# Altium schematic symbol library AUVic_Schematic_Library_Connectors.SchLib: 54 symbols
Pins are listed as number, name and electrical type; pins without a type are passive.

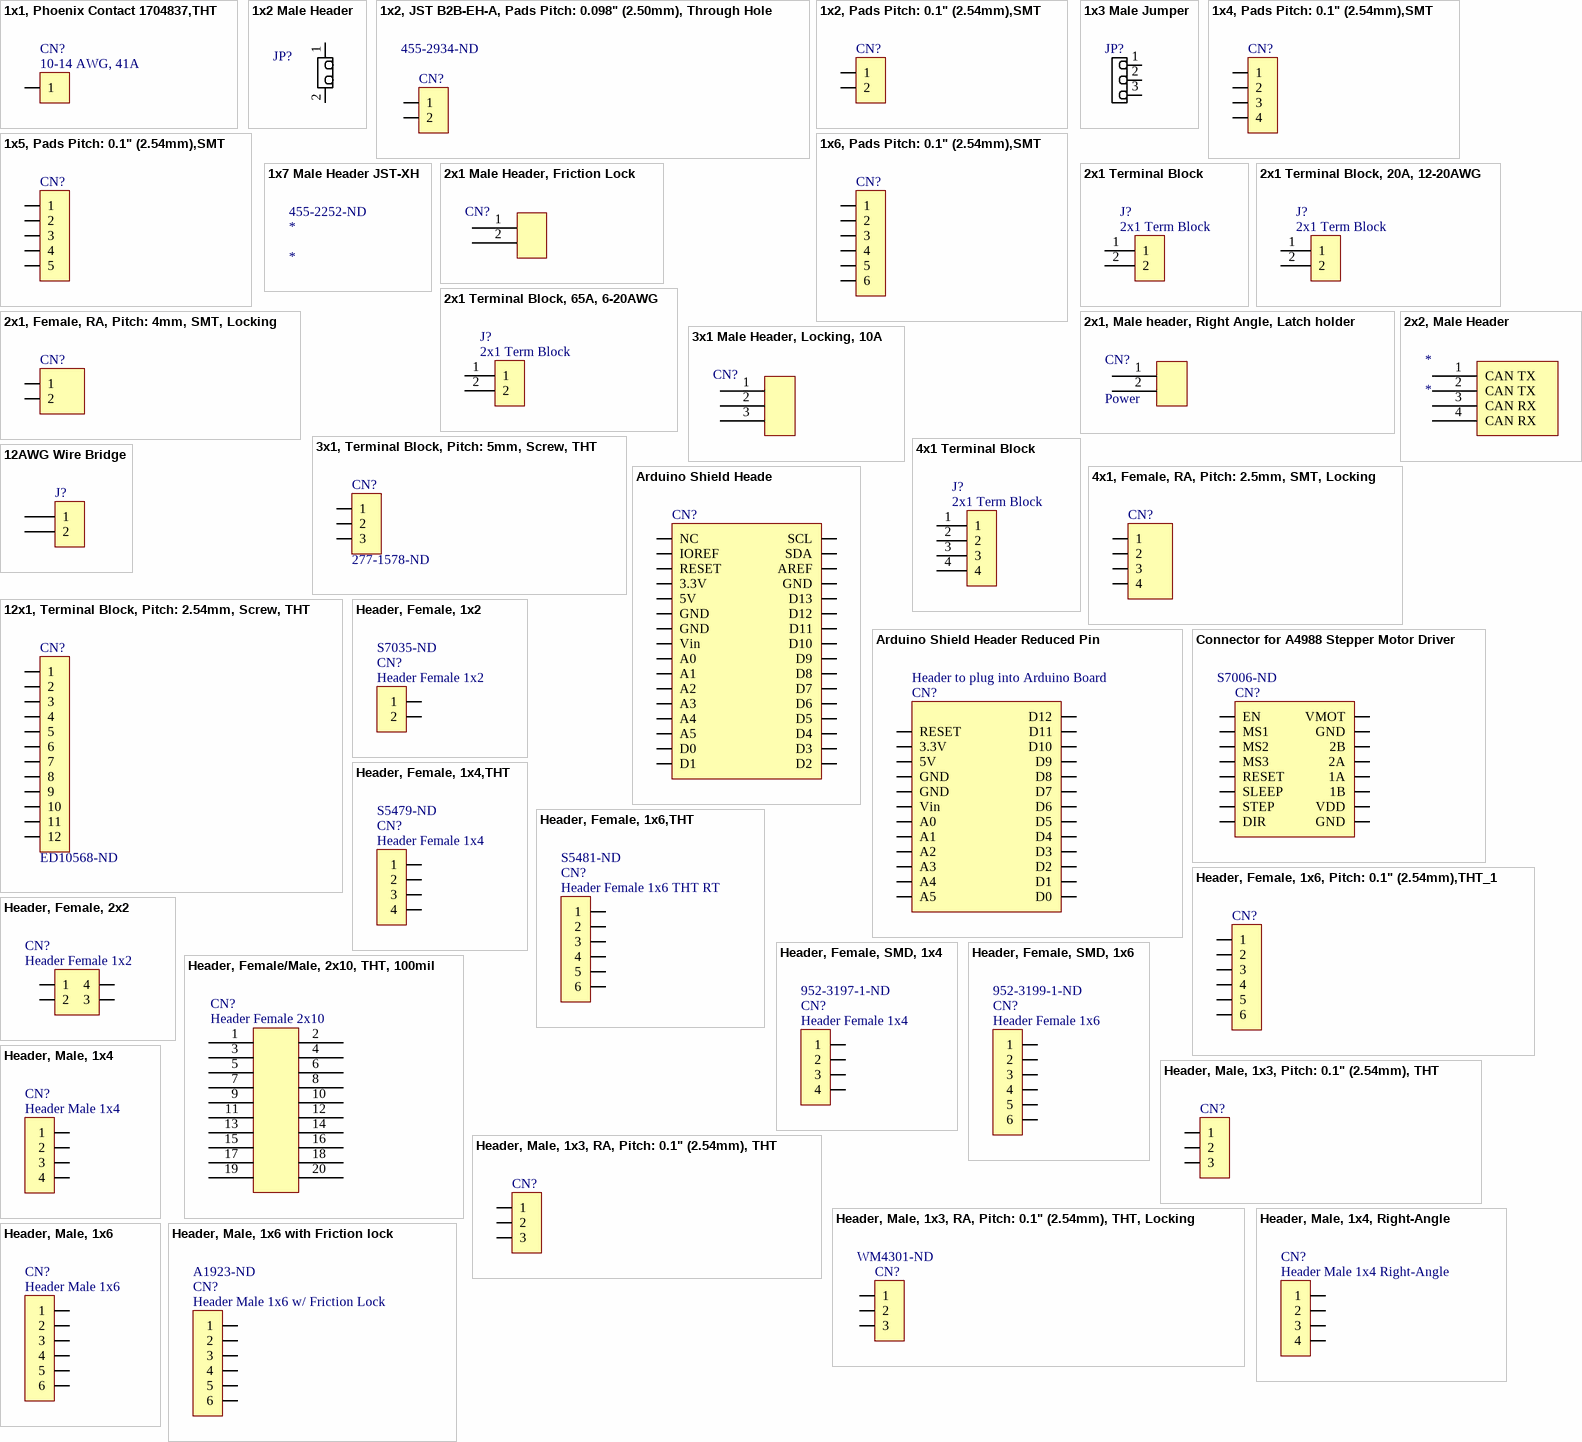
[diagram p0: symbols 1x1, Phoenix Contact 1704837,THT to Header, Male, 1x6 with Friction lock]

## 1x1, Phoenix Contact 1704837,THT
designator CN?, comment 10-14 AWG, 41A  (no BOM)
1x1, Phoenix Contact 1704837,THT; Publisher: Andy Bates; Date Published: 2018-01-21; Last Updated: *; Reviewed By: *; Supplier 1: Digi-Key; Supplier Part Number 1: 277-10194-1-ND
footprint 1x1, Phoenix Contact 1704837,THT
pins: 1

## 1x2 Male Header
designator JP?, comment 1X2 Pin Head  (value not drawn)
Made By: Andy Bates; Supplier 1: Digikey; Supplier 1 Part Number: 952-3073-ND
footprint 2X1 Males Header
pins: 1, 2

## 1x2, JST B2B-EH-A, Pads Pitch: 0.098" (2.50mm), Through Hole
designator CN?  Supplier Part Number 1: 455-2934-ND  (hidden comment: *)  (no BOM)
1x2, JST B2B-EH-A, Pads Pitch: 0.098" (2.50mm), Through Hole; Created By: Lyden Smith; Created On: 2018-01-27; Supplier 1: Digi-Key; Supplier 2: Digi-Key; Supplier Part Number 2: 455-1611-ND
footprint Male JST B2B-EH-A
pins: 1, 2

## 1x2, Pads Pitch: 0.1" (2.54mm),SMT
designator CN?  (value not drawn)  (no BOM)
1x2, Pads Pitch: 0.1" (2.54mm),SMT; Publisher: AUVic, Ashwin Sira; Date Published: 2014-06-03; Last Updated: *; Reviewed By: *
footprint 1x2, Pads Pitch: 0.1" (2.54mm),SMT
pins: 1, 2

## 1x3 Male Jumper
designator JP?  (value not drawn)
Made By: Poorna Chander Kalidas; Supplier 1: Digi-Key; Supplier Part Number: 1849-1003-ND
footprint Header, Male, 1x3, Pitch: 0.1" (2.54mm),THT
pins: 1, 2, 3

## 1x4, Pads Pitch: 0.1" (2.54mm),SMT
designator CN?  (value not drawn)  (no BOM)
1x4, Pads Pitch: 0.1" (2.54mm),SMT; Publisher: AUVic, Ashwin Sira; Date Published: 2014-06-03; Last Updated: *; Reviewed By: *
footprint 1x4, Pads Pitch: 0.1" (2.54mm),SMT
pins: 1, 2, 3, 4

## 1x5, Pads Pitch: 0.1" (2.54mm),SMT
designator CN?  (value not drawn)  (no BOM)
1x5, Pads Pitch: 0.1" (2.54mm),SMT; Publisher: AUVic, Ashwin Sira; Date Published: 2014-06-03; Last Updated: *; Reviewed By: *
footprint 1x5, Pads Pitch: 0.1" (2.54mm),SMT
pins: 1, 2, 3, 4, 5

## 1x6, Pads Pitch: 0.1" (2.54mm),SMT
designator CN?  (value not drawn)  (no BOM)
1x6, Pads Pitch: 0.1" (2.54mm),SMT; Publisher: AUVic, Ashwin Sira; Date Published: 2014-06-03; Last Updated: *; Reviewed By: *
footprint 1x6, Pads Pitch: 0.1" (2.54mm),SMT
pins: 1, 2, 3, 4, 5, 6

## 1x7 Male Header JST-XH
designator *  Supplier Part Number 1: 455-2252-ND
Supplier 1: Digi-Key

## 2x1 Male Header, Friction Lock
designator CN?, comment 640456-2  (value not drawn)
CONN HEADER VERT 2POS .100 TIN; Made by: Robert Keen; ComponentLink1Description: Digikey; ComponentLink1URL: https://www.digikey.ca/product-detail/en/te-connectivity-amp-connectors/640456-2/A1921-ND/109003; Made on: 2018-08-15; Supplier 1: Digi-Key; Supplier Part Number 1: A1921-ND
footprint 640456-2
pins: 1, 2

## 2x1 Terminal Block
designator J?, comment 2x1 Term Block
Made by: Andy Bates; Supplier 1: Digikey; Supplier Part Number 1: ED2740-ND
footprint 2X1 Terminal Blocks (ED2740-ND)
pins: 1, 2

## 2x1 Terminal Block, 20A, 12-20AWG
designator J?, comment 2x1 Term Block
Made by: Andy Bates; Date Made: 2017-11-14; Supplier 1: Digi-Key; Supplier Part Number 1: 277-6405-ND
footprint 2X1 Terminal Blocks Phoenix Contact 5mm
pins: 1, 2

## 2x1 Terminal Block, 65A, 6-20AWG
designator J?, comment 2x1 Term Block
Made by: Lyden Smith; Supplier 1: Digi-Key; Supplier Part Number 1: 283-4339-ND; Date Made: 2017-11-13
footprint 2x1 Terminal Blocks EM2929 (EM2929 02-L)
pins: 1, 2

## 2x1, Female, RA, Pitch: 4mm, SMT, Locking
designator CN?  (value not drawn)
2x1 Female, RA, Pitch: 4mm, SMT, Locking; Publisher: AUVic, Ashwin Sira; Date Published: 2014-06-03; Last Updated: *; Reviewed By: *; Supplier 1: Digi-Key; Supplier Part Number 1: WM10425CT-ND
footprint 2x1, Female, RA, Pitch: 4mm, SMT, Locking
pins: 1, 2

## 2x1, Male header, Right Angle, Latch holder
designator CN?, comment Power
Connector Header Through Hole, Right Angle 2 position 0.312" (7.92mm); Made by: Robert Keen; ComponentLink1Description: Digikey (male); ComponentLink1URL: https://www.digikey.ca/product-detail/en/hirose-electric-co-ltd/DF22R-2P-7.92DS-05/H10706-ND/1025057; ComponentLink2Description: Digikey (female); ComponentLink2URL: https://www.digikey.ca/product-detail/en/hirose-electric-co-ltd/DF22R-2S-7.92C-28/H1615-ND/510248; ComponentLink3Description: Digikey (crimp); ComponentLink3URL: https://www.digikey.ca/product-detail/en/hirose-electric-co-ltd/DF22-1416SCF/H2788CT-ND/365031; Made on: 2018-08-16; Supplier 3: Digi-Key; Supplier Part Number 1: H10706-ND; Supplier Part Number 2: H1615-ND; Supplier Part Number 3: H2788CT-ND; Supplier 2: Digi-Key; Supplier 1: Digi-Key
footprint 2X1 Power Connector 90 degrees
pins: 1, 2

## 2x2, Male Header
designator *
CONN HEADER 4POS VERT 2MM T/H; Made by: Robert Keen; ComponentLink1Description: Digikey; ComponentLink1URL: https://www.digikey.ca/product-detail/en/molex-llc/0878310441/WM8610-ND/3044731; Supplier 1: Digi-Key; Made on: 2018-08-14; Supplier Part Number 1: WM8610-ND
footprint Header, Male, 2X2, CAN
pins: 1 CAN TX, 2 CAN TX, 3 CAN RX, 4 CAN RX

## 3x1 Male Header, Locking, 10A
designator CN?, comment B3PS-VH(LF)(SN)  (value not drawn)
CONN HEADER VH SIDE 3POS 3.96MM; Made by: Robert Keen; Made on: 2018-08-16; Supplier 1: Digi-Key; Supplier Part Number 1: 455-1649-ND; ComponentLink1Description: Digikey (male); ComponentLink1URL: https://www.digikey.ca/product-detail/en/jst-sales-america-inc/B3PS-VH-LF-SN/455-1649-ND/926556; ComponentLink2Description: Digikey (female); ComponentLink2URL: https://www.digikey.ca/product-detail/en/jst-sales-america-inc/VHR-3N/455-1184-ND/608625; ComponentLink3Description: Digikey (crimps); ComponentLink3URL: https://www.digikey.ca/product-detail/en/jst-sales-america-inc/SVH-21T-P1.1/455-1133-1-ND/527367; Supplier Part Number 2: 455-1184-ND; Supplier Part Number 3: 455-1133-1-ND
footprint 3X1 Male Header, Locking, 10A
pins: 1, 2, 3

## 3x1, Terminal Block, Pitch: 5mm, Screw, THT
designator CN?  Supplier Part Number 1: 277-1578-ND  (hidden comment: *)
3x1, Terminal Block, Pitch: 5mm, Screw, THT; Publisher: AUVic, Ashwin Sira; Date Published: 2014-06-03; Last Updated: *; Reviewed By: *; Supplier 1: Digi-Key
footprint 3x1, Terminal Block, Pitch: 5mm, Screw, THT
pins: 1, 2, 3

## 4x1 Terminal Block
designator J?, comment 2x1 Term Block
Made by: Andy Bates; Supplier 1: Digikey; Supplier Part Number 1: ED2742-ND
footprint 4X1 Terminal Block (ED2742-ND)
pins: 1, 2, 3, 4

## 4x1, Female, RA, Pitch: 2.5mm, SMT, Locking
designator CN?  (value not drawn)
4x1 Female, RA, Pitch: 2.5mm, SMT, Locking; Owner: AUVic; Date Published: 2014-06-03; Last Updated: *; Reviewed By: *; Created By: Ashwin Sira; Supplier 1: Digi-Key; Supplier Part Number 1: 478-6171-1-ND
footprint 4x1 Female, RA, Pitch: 2.5mm, SMT, Locking
pins: 1, 2, 3, 4

## 12AWG Wire Bridge
designator J?  (value not drawn)
12AWG Wire Bridge; Created By: Lyden Smith; Created On: 2018-01-29
footprint 12AWG Wire Bridge
pins: 1, 2

## 12x1, Terminal Block, Pitch: 2.54mm, Screw, THT
designator CN?  Supplier Part Number 1: ED10568-ND  (hidden comment: *)
12x1, Terminal Block, Pitch: 2.54mm, Screw, THT; Publisher: AUVic; Date Published: 2016-07-14; Created By: Ashwin Sira; Supplier 1: Digi-Key
footprint 12X1 Terminal Block (ED2742-ND)
pins: 1, 2, 3, 4, 5, 6, 7, 8, 9, 10, 11, 12

## Arduino Shield Heade
designator CN?, comment Header to plug into Arduino Board  (value not drawn)
1x8 Header  x2 / 1x10 Header / 1.6 Header / Pitch: 0.1" (2.54mm), Contact Length 0.394" (10.00mm) Through hole; Made Bates: Poorna Chander Kalidas; Supplier 1: Digi-Key; Supplier 2: Digi-Key; Supplier 3: Digi-Key; Supplier Part Number 1: SAM8866-ND; Supplier Part Number 2: SSW-110-03-T-S-ND; Supplier Part Number 3: SAM8865-ND
footprint DIP32 Arduino Shield
pins: 1 NC, 2 IOREF, 3 RESET, 4 3.3V, 5 5V, 6 GND, 7 GND, 8 Vin, 9 A0, 10 A1, 11 A2, 12 A3, 13 A4, 14 A5, 15 D0, 16 D1, 17 D2, 18 D3, 19 D4, 20 D5, 21 D6, 22 D7, 23 D8, 24 D9, 25 D10, 26 D11, 27 D12, 28 D13, 29 GND, 30 AREF, 31 SDA, 32 SCL

## Arduino Shield Header Reduced Pin
designator CN?, comment Header to plug into Arduino Board
1x6 Header  x2 / 1x8 Header / 1x5 Header / Reduced Pin Version - Does not connect to all pin on the Arduino / Pitch: 0.1" (2.54mm), Contact Length 0.394" (10.00mm) Through hole; Made Bates: Poorna Chander Kalidas; Supplier 1: Digi-Key; Supplier 2: Digi-Key; Supplier 3: Digi-Key; Supplier Part Number 1: SAM8865-ND; Supplier Part Number 2: SAM1206-05-ND; Supplier Part Number 3: SSW-106-03-T-S-ND
footprint Arduino Shield Reduced Pin
pins: 3 RESET, 4 3.3V, 5 5V, 6 GND, 7 GND, 8 Vin, 9 A0, 10 A1, 11 A2, 12 A3, 13 A4, 14 A5, 15 D0, 16 D1, 17 D2, 18 D3, 19 D4, 20 D5, 21 D6, 22 D7, 23 D8, 24 D9, 25 D10, 26 D11, 27 D12

## Connector for A4988 Stepper Motor Driver
designator CN?  Supplier Part Number 1: S7006-ND  (hidden comment: *)
Header, Female, 2x8, Pitch: 0.1" (2.54mm),THT; Created By: Poorna Chander Kalidas; Supplier 1: Digi-Key
footprint A4988 Stepper Motor Driver Header
pins: 1 EN, 2 MS1, 3 MS2, 4 MS3, 5 RESET, 6 SLEEP, 7 STEP, 8 DIR, 9 GND, 10 VDD, 11 1B, 12 1A, 13 2A, 14 2B, 15 GND, 16 VMOT

## Header, Female, 1x2
designator CN?, comment Header Female 1x2  Supplier Part Number 1: S7035-ND
1x2, Pads Pitch: 0.1" (2.54mm), Through hole; Made Bates: Andy Bates; Supplier 1: Digi-Key
footprint 2X1 Female Header
pins: 1, 2

## Header, Female, 1x4,THT
designator CN?, comment Header Female 1x4  Supplier Part Number 1: S5479-ND
1x4, Pads Pitch: 0.1" (2.54mm), RT Ang, Through hole; Made Bates: Andy Bates; Supplier 1: Digi-Key
footprint Header, Female, RT Ang, 0.1", 1X4
pins: 1, 2, 3, 4

## Header, Female, 1x6, Pitch: 0.1" (2.54mm),THT_1
designator CN?  (value not drawn)
Header, Female, 1x6, Pitch: 0.1" (2.54mm),THT; Publisher: AUVic, Ashwin Sira; Date Published: 2014-06-03; Last Updated: *; Reviewed By: *; Supplier 1: Digi-Key; Supplier Part Number 1: SAM1103-32-ND
footprint Header, Female, 1x6, Pitch: 0.1" (2.54mm),THT
pins: 1, 2, 3, 4, 5, 6

## Header, Female, 1x6,THT
designator CN?, comment Header Female 1x6 THT RT  Supplier Part Number 1: S5481-ND
1x4, Pads Pitch: 0.1" (2.54mm), RT Ang, Through hole; Made Bates: Andy Bates; Supplier 1: Digi-Key
footprint Header, Female, RT Ang, 0.1", 1X6
pins: 1, 2, 3, 4, 5, 6

## Header, Female, 2x2
designator CN?, comment Header Female 1x2
2x2, Pads Pitch: 0.1" (2.54mm), Through hole; Made Bates: Andy Bates; Supplier 1: Digi-Key; Supplier Part Number 1: S7105-ND
footprint Header, Female, 2x2, THT
pins: 1, 2, 3, 4

## Header, Female, SMD, 1x4
designator CN?, comment Header Female 1x4  Supplier Part Number 1: 952-3197-1-ND
1x4, Pads Pitch: 0.1" (2.54mm), RT Ang, SMD; Made Bates: Andy Bates; Supplier 1: Digi-Key
footprint 1x4, Female Header, Pads Pitch: 0.1" (2.54mm),SMT
pins: 1, 2, 3, 4

## Header, Female, SMD, 1x6
designator CN?, comment Header Female 1x6  Supplier Part Number 1: 952-3199-1-ND
1x6, Pads Pitch: 0.1" (2.54mm), RT Ang, SMD; Made Bates: Andy Bates; Supplier 1: Digi-Key
footprint 1x6, Female Header, Pads Pitch: 0.1" (2.54mm),SMT
pins: 1, 2, 3, 4, 5, 6

## Header, Female/Male, 2x10, THT, 100mil
designator CN?, comment Header Female 2x10
Header, Female with extended Male pins, 2x10, THT, 100mil; Created By: Poorna Chander Kalidas; Supplier 1: Digi-Key; Supplier Part Number 1: SAM1204-10-ND
footprint HEADER, FEMALE/MALE, 2x10, 100mil
pins: 1, 2, 3, 4, 5, 6, 7, 8, 9, 10, 11, 12, 13, 14, 15, 16, 17, 18, 19, 20

## Header, Male, 1x3, Pitch: 0.1" (2.54mm), THT
designator CN?  (value not drawn)
Header, Male, 1x3, Pitch: 0.1" (2.54mm), THT; Publisher: AUVic; Date Published: 2016-03-03; Last Updated: *; Reviewed By: *; Created By: Ashwin Sira
footprint Header, Male, 1x3, Pitch: 0.1" (2.54mm),THT
pins: 1, 2, 3

## Header, Male, 1x3, RA, Pitch: 0.1" (2.54mm), THT
designator CN?  (value not drawn)
Header, Male, 1x3, RA, Pitch: 0.1" (2.54mm), THT; Publisher: AUVic; Date Published: 2016-03-03; Last Updated: *; Reviewed By: *; Created By: Ashwin Sira
footprint Header, Male, 1x3, RA, Pitch: 0.1" (2.54mm),THT
pins: 1, 2, 3

## Header, Male, 1x3, RA, Pitch: 0.1" (2.54mm), THT, Locking
designator CN?  Supplier Part Number 1: WM4301-ND  (hidden comment: *)
Header, Male, 1x3, RA, Pitch: 0.1" (2.54mm), THT. Locking; Date Published: 2018-07-12; Created By: Robert Keen; ComponentLink1Description: Digikey; ComponentLink1URL: https://www.digikey.ca/product-detail/en/molex-llc/0022053031/WM4301-ND/26691; Supplier 1: Digi-Key; ComponentLink2Description: Female; ComponentLink2URL: https://www.digikey.ca/product-detail/en/molex-llc/22-01-3037/WM2001-ND/26433; ComponentLink3Description: crimps; ComponentLink3URL: https://www.digikey.ca/product-detail/en/molex-llc/0008500113/WM1114CT-ND/467980
footprint HEADER, MALE, 1X3RA, Pitch: 0.1" (2.54mm), THT, FRICTION LOCK
pins: 1, 2, 3

## Header, Male, 1x4
designator CN?, comment Header Male 1x4
1x4, Pads Pitch: 0.1" (2.54mm), Through hole; Made Bates: Andy Bates; Supplier 1: Digikey; Supplier 1 Part Number: 952-2266-ND
footprint Header, Male, 1X4
pins: 1, 2, 3, 4

## Header, Male, 1x4, Right-Angle
designator CN?, comment Header Male 1x4 Right-Angle
1x4, Pads Pitch: 0.1" (2.54mm), Right-angle, Through hole; Made Bates: Poorna Chander Kalidas; Supplier 1: Digi-Key; Supplier Part Number 1: 952-1965-ND; ComponentLink1Description: Harwin Inc. M20-9750446; ComponentLink1URL: https://www.digikey.ca/product-detail/en/harwin-inc/M20-9750446/952-1965-ND/3727931
footprint Header, Male, 1X4, More solder
pins: 1, 2, 3, 4

## Header, Male, 1x6
designator CN?, comment Header Male 1x6
1x6, Pads Pitch: 0.1" (2.54mm), Through hole; Made Bates: Andy Bates; Supplier 1: Digikey; Supplier 1 Part Number: 952-2270-ND
footprint Header, Male, 1X6
pins: 1, 2, 3, 4, 5, 6

## Header, Male, 1x6 with Friction lock
designator CN?, comment Header Male 1x6 w/ Friction Lock  Supplier Part Number 1: A1923-ND
1x6, Pads Pitch: 0.1" (2.54mm), Friction lock, Through hole; Made Bates: Andy Bates; Supplier 1 Part Number: 952-2270-ND; Locking method: Friction lock; Supplier 1: Digi-Key
footprint Header, Male, 1X6 - duplicate
pins: 1, 2, 3, 4, 5, 6

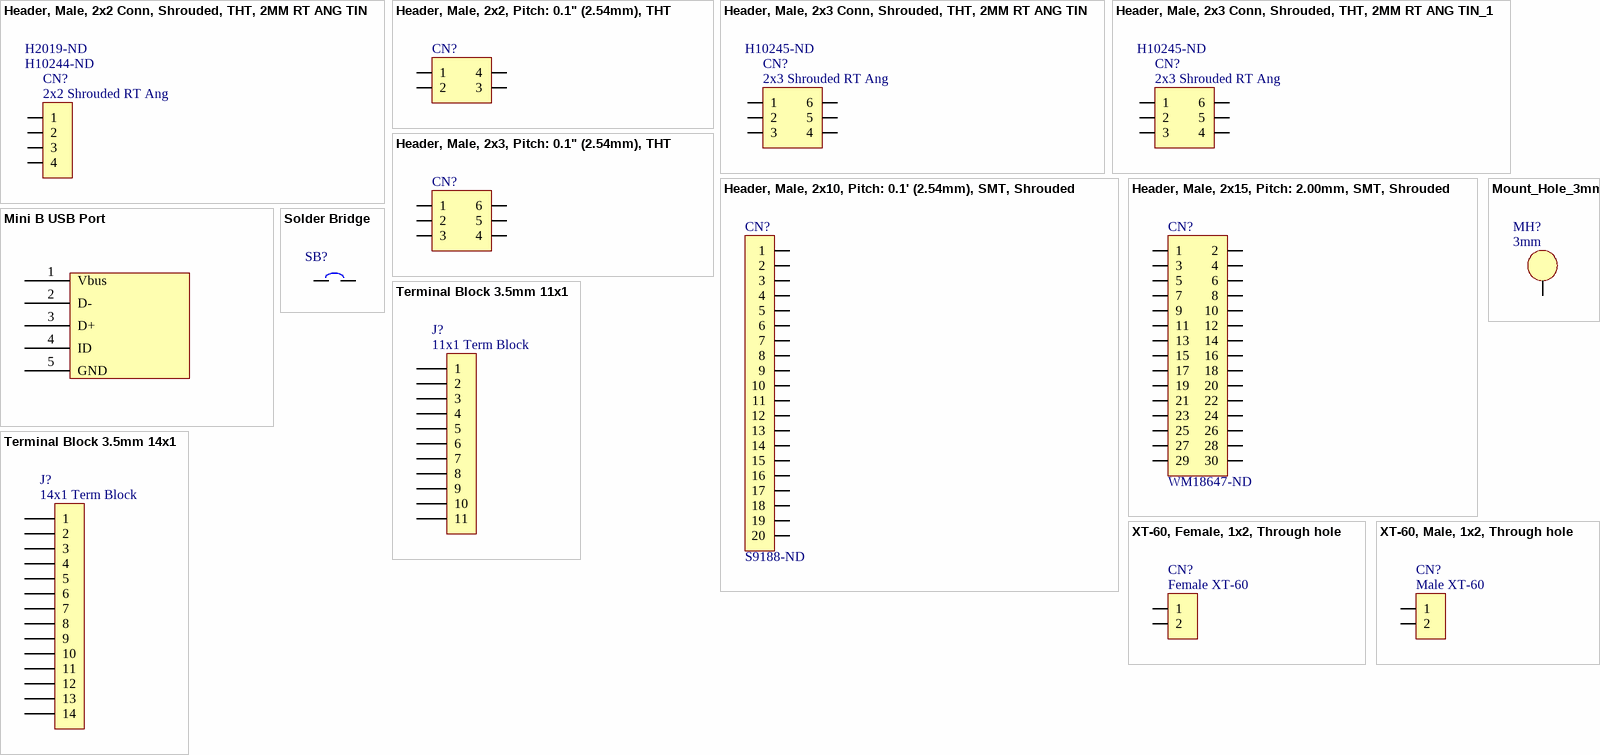
[diagram p1: symbols Header, Male, 2x2 Conn, Shrouded, THT, 2MM RT ANG TIN to XT-60, Male, 1x2, Through hole]

## Header, Male, 2x2 Conn, Shrouded, THT, 2MM RT ANG TIN
designator CN?, comment 2x2 Shrouded RT Ang  Supplier Part Number 1: H10244-ND  Supplier Part Number 2: H2019-ND
Header, Male, 2x2, Pitch: 0.1" (2.54mm), THT; Publisher: AUVic; Date Published: 2018-06-12; Last Updated: *; Reviewed By: *; Created By: Poorna Chander Kalidas; Supplier 1: Digi-Key; Supplier 2: Digi-Key
footprint HEADER, MALE, Shrouded, 4POS, 2MM, RT ANG,THT
pins: 1, 2, 3, 4

## Header, Male, 2x2, Pitch: 0.1" (2.54mm), THT
designator CN?  (value not drawn)
Header, Male, 2x2, Pitch: 0.1" (2.54mm), THT; Publisher: AUVic; Date Published: 2018-01-27; Last Updated: *; Reviewed By: *; Created By: Lyden Smith
footprint Header, Male, 2x2, Pitch: 0.1" (2.54mm),THT
pins: 1, 2, 3, 4

## Header, Male, 2x3 Conn, Shrouded, THT, 2MM RT ANG TIN
designator CN?, comment 2x3 Shrouded RT Ang  Supplier Part Number 1: H10245-ND
Header, Male, 2x3, Pitch: 0.1" (2.54mm), THT; Publisher: AUVic; Date Published: 2017-09-13; Last Updated: *; Reviewed By: *; Created By: Andy Bates; Supplier 1: Digi-Key
footprint HEADER, MALE, Shrouded, 6POS, 2MM, RT ANG,THT
pins: 1, 2, 3, 4, 5, 6

## Header, Male, 2x3 Conn, Shrouded, THT, 2MM RT ANG TIN_1
designator CN?, comment 2x3 Shrouded RT Ang  Supplier Part Number 1: H10245-ND
Header, Male, 2x3, Pitch: 0.1" (2.54mm), THT; Publisher: AUVic; Date Published: 2017-09-13; Last Updated: *; Reviewed By: *; Created By: Andy Bates; Supplier 1: Digi-Key
footprint HEADER, MALE, Shrouded, 6POS, 2MM, RT ANG,THT
pins: 1, 2, 3, 4, 5, 6

## Header, Male, 2x3, Pitch: 0.1" (2.54mm), THT
designator CN?  (value not drawn)
Header, Male, 2x3, Pitch: 0.1" (2.54mm), THT; Publisher: AUVic; Date Published: 2017-09-13; Last Updated: *; Reviewed By: *; Created By: Andy Bates
footprint Header, Male, 2x3, Pitch: 0.1" (2.54mm),THT
pins: 1, 2, 3, 4, 5, 6

## Header, Male, 2x10, Pitch: 0.1' (2.54mm), SMT, Shrouded
designator CN?  Supplier Part Number 1: S9188-ND  (hidden comment: *)
Header, Male, 2x10, Pitch: 0.1' (2.54mm), SMT, Shrouded; Publisher: AUVic; Date Published: 2016-05-18; Last Updated: *; Reviewed By: *; Supplier 1: Digi-Key; Created By: Ashwin Sira
footprint Header, Male, 2x10, Pitch: 0.1" (2.54mm),SMT (Footprint not found)
pins: 1, 2, 3, 4, 5, 6, 7, 8, 9, 10, 11, 12, 13, 14, 15, 16, 17, 18, 19, 20
1 alternate drawing of the same symbol

## Header, Male, 2x15, Pitch: 2.00mm, SMT, Shrouded
designator CN?  Supplier Part Number 1: WM18647-ND  (hidden comment: *)
Header, Male, 2x15, Pitch: 2.00mm, SMT, Shrouded; Publisher: AUVic; Date Published: 2016-07-17; Supplier 1: Digi-Key; Created By: Ashwin Sira
footprint 87832-3020 Header, Male, 2x15, Pitch: 2.00mm,SMT (Molex 87832-3020 Header, Male, 2x15, Pitch: 2.00mm,SMT)
pins: 1, 2, 3, 4, 5, 6, 7, 8, 9, 10, 11, 12, 13, 14, 15, 16, 17, 18, 19, 20, 21, 22, 23, 24, 25, 26, 27, 28, 29, 30
1 alternate drawing of the same symbol

## Mini B USB Port
designator P?
Mini B USB Port - Female; Created by: Gabriel Green; Created on: July 5, 2017; Supplier 1: Digi-Key; Supplier Part Number 1: 151-1206-1-ND
footprint Mini B USB Footprint
pins: 1 Vbus, 2 D-, 3 D+, 4 ID, 5 GND

## Mount_Hole_3mm
designator MH?, comment 3mm
footprint Mount-Hole_3mm
pins: 1

## Solder Bridge
designator SB?  (value not drawn)
Made By: Andy Bates; Created On: 2016/09/08
footprint Solder Bridge
pins: 1, 2

## Terminal Block 3.5mm 11x1
designator J?, comment 11x1 Term Block
Made by: Andy Bates; Supplier 1: Digikey; Supplier Part Number 1: ED2736-ND
footprint Terminal Block 3.5mm 11x1
pins: 1, 2, 3, 4, 5, 6, 7, 8, 9, 10, 11

## Terminal Block 3.5mm 14x1
designator J?, comment 14x1 Term Block
Made by: Andy Bates; Supplier 1: Digikey; Supplier Part Number 1: ED2738-ND
footprint 14x1 Terminal Block
pins: 1, 2, 3, 4, 5, 6, 7, 8, 9, 10, 11, 12, 13, 14

## XT-60, Female, 1x2, Through hole
designator CN?, comment Female XT-60  (no BOM)
XT-60, Female, 1x2, Through hole; Publisher: Andy Bates; Date Published: 2016-09-08; Supplier 1: Hobby King
footprint XT-60 Female
pins: 1, 2

## XT-60, Male, 1x2, Through hole
designator CN?, comment Male XT-60  (no BOM)
XT-60, Male, 1x2, Through hole; Publisher: Andy Bates; Date Published: 2016-09-08; Supplier 1: Hobby King
footprint XT-60 Male
pins: 1, 2